# Altium footprint library PCB - SWITCH - E-SWITCH EG2208.PcbLib: 1 footprints
Each footprint in its own frame and in the unit in brackets; x right, y up, seen from the top. Pads: shape width x height; smd on the part's side, far side on the other; paste and mask are expansions set on the pad; w line width, h text height; cw(c..) or ccw(c..) is an arc to the next point about the centre after c.
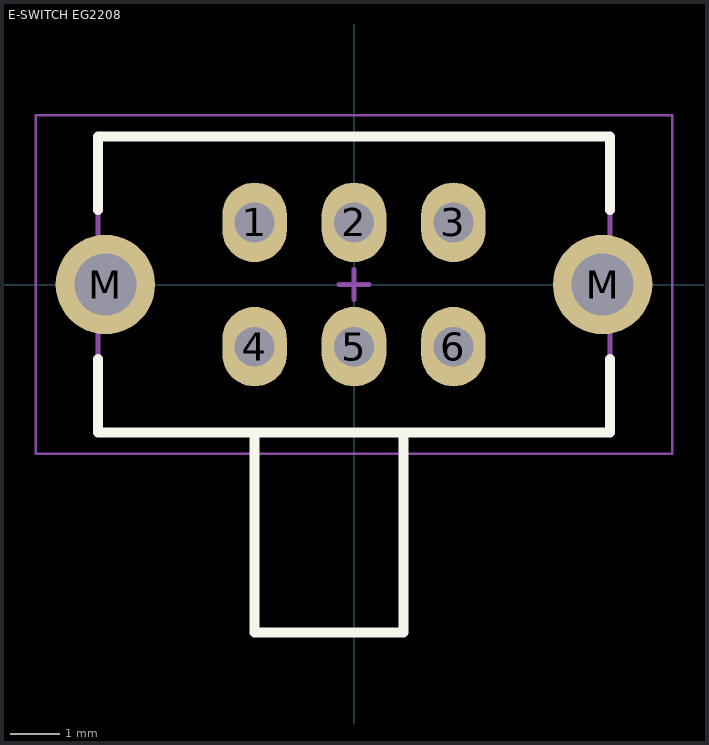
[diagram p0: the footprint, top view; thin cyan lines are the x and y axes]

## E-SWITCH EG2208 [mm] "Slide Switch DPDT Through Hole, Right Angle"
height 5
pads (8):
  oval 1.3x1.6 hole 0.8: 1(-2,1.25) 2(0,1.25) 3(2,1.25) 4(-2,-1.25) 5(0,-1.25) 6(2,-1.25)
  round 2 hole 1.25: M(-5,0) M(5,0)
Top Overlay:
  lines w0.2: -5.15,-1.5 -5.15,-2.975 5.15,-2.975 5.15,-1.5 ; -5.15,1.5 -5.15,2.975 5.15,2.975 5.15,1.5 ; -2,-2.975 -2,-7 1,-7 1,-2.975
Mechanical 13:
  lines w0.1: -2,-2.975 -2,-7 1,-7 1,-2.975 ; -5.15,-2.975 -5.15,2.975 5.15,2.975 5.15,-2.975 -5.15,-2.975
Mechanical 15 (Mech15):
  lines w0.05: -6.4,-3.4 -6.4,3.4 6.4,3.4 6.4,-3.4 -6.4,-3.4
  lines w0.1: -0.3,0 0.3,0 ; 0,-0.3 0,0.3
3D body "E-SWITCH - EG2208.step": height 5, standoff -3, extent -5.15,-7.016 5.15,2.984